# Altium integrated library ST.IntLib: 1 symbol
Pins are listed as number, name and electrical type; pins without a type are passive.

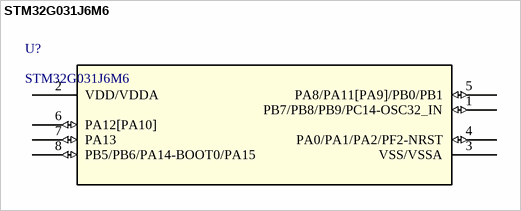
[diagram p0: symbol STM32G031J6M6]

## STM32G031J6M6
designator U?
Arm® Cortex®-M0+ 32-bit MCU, up to 64 KB Flash, 8 KB RAM, / 2x USART, timers, ADC, comm. I/Fs, 1.7-3.6V; Vendor: STMicroelectronics; Built_By: EMA_UL_Team; SourceLibrary: Updates_to_database_2020-10-19; Manufacturer_Part_Number: STM32G031J6M6; Copyright: Copyright (C) 2018 Accelerated Designs. All rights reserved; RefDes: RefDes; Type: DEV
footprint SO8N
pins: 1 PB7/PB8/PB9/PC14-OSC32_IN (io), 2 VDD/VDDA (power), 3 VSS/VSSA (power), 4 PA0/PA1/PA2/PF2-NRST (io), 5 PA8/PA11[PA9]/PB0/PB1 (io), 6 PA12[PA10] (io), 7 PA13 (io), 8 PB5/PB6/PA14-BOOT0/PA15 (io)